# Altium schematic symbol library USB4151-GF-C_REVA.SchLib: 1 symbol
Pins are listed as number, name and electrical type; pins without a type are passive.

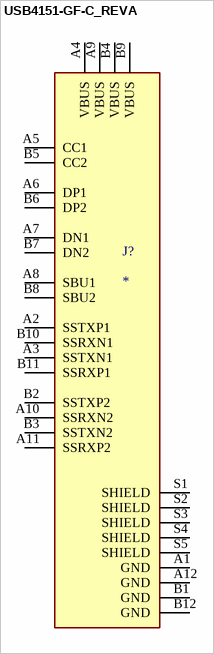
[diagram p0: symbol USB4151-GF-C_REVA]

## USB4151-GF-C_REVA
designator J?
USB Type C Plug, Vertical, SMT; MP: USB4151-GF-C_REVA; Price: None; Package: None; Availability: Unavailable; Value: *
footprint GCT_USB4151-GF-C_REVA
pins: A1 GND (power), A2 SSTXP1, A3 SSTXN1, A4 VBUS (power), A5 CC1, A6 DP1, A7 DN1, A8 SBU1, A9 VBUS (power), A10 SSRXN2, A11 SSRXP2, A12 GND (power), B1 GND (power), B2 SSTXP2, B3 SSTXN2, B4 VBUS (power), B5 CC2, B6 DP2, B7 DN2, B8 SBU2, B9 VBUS (power), B10 SSRXN1, B11 SSRXP1, B12 GND (power), S1 SHIELD, S2 SHIELD, S3 SHIELD, S4 SHIELD, S5 SHIELD